# Altium integrated library power.IntLib: 59 symbols
Pins are listed as number, name and electrical type; pins without a type are passive.

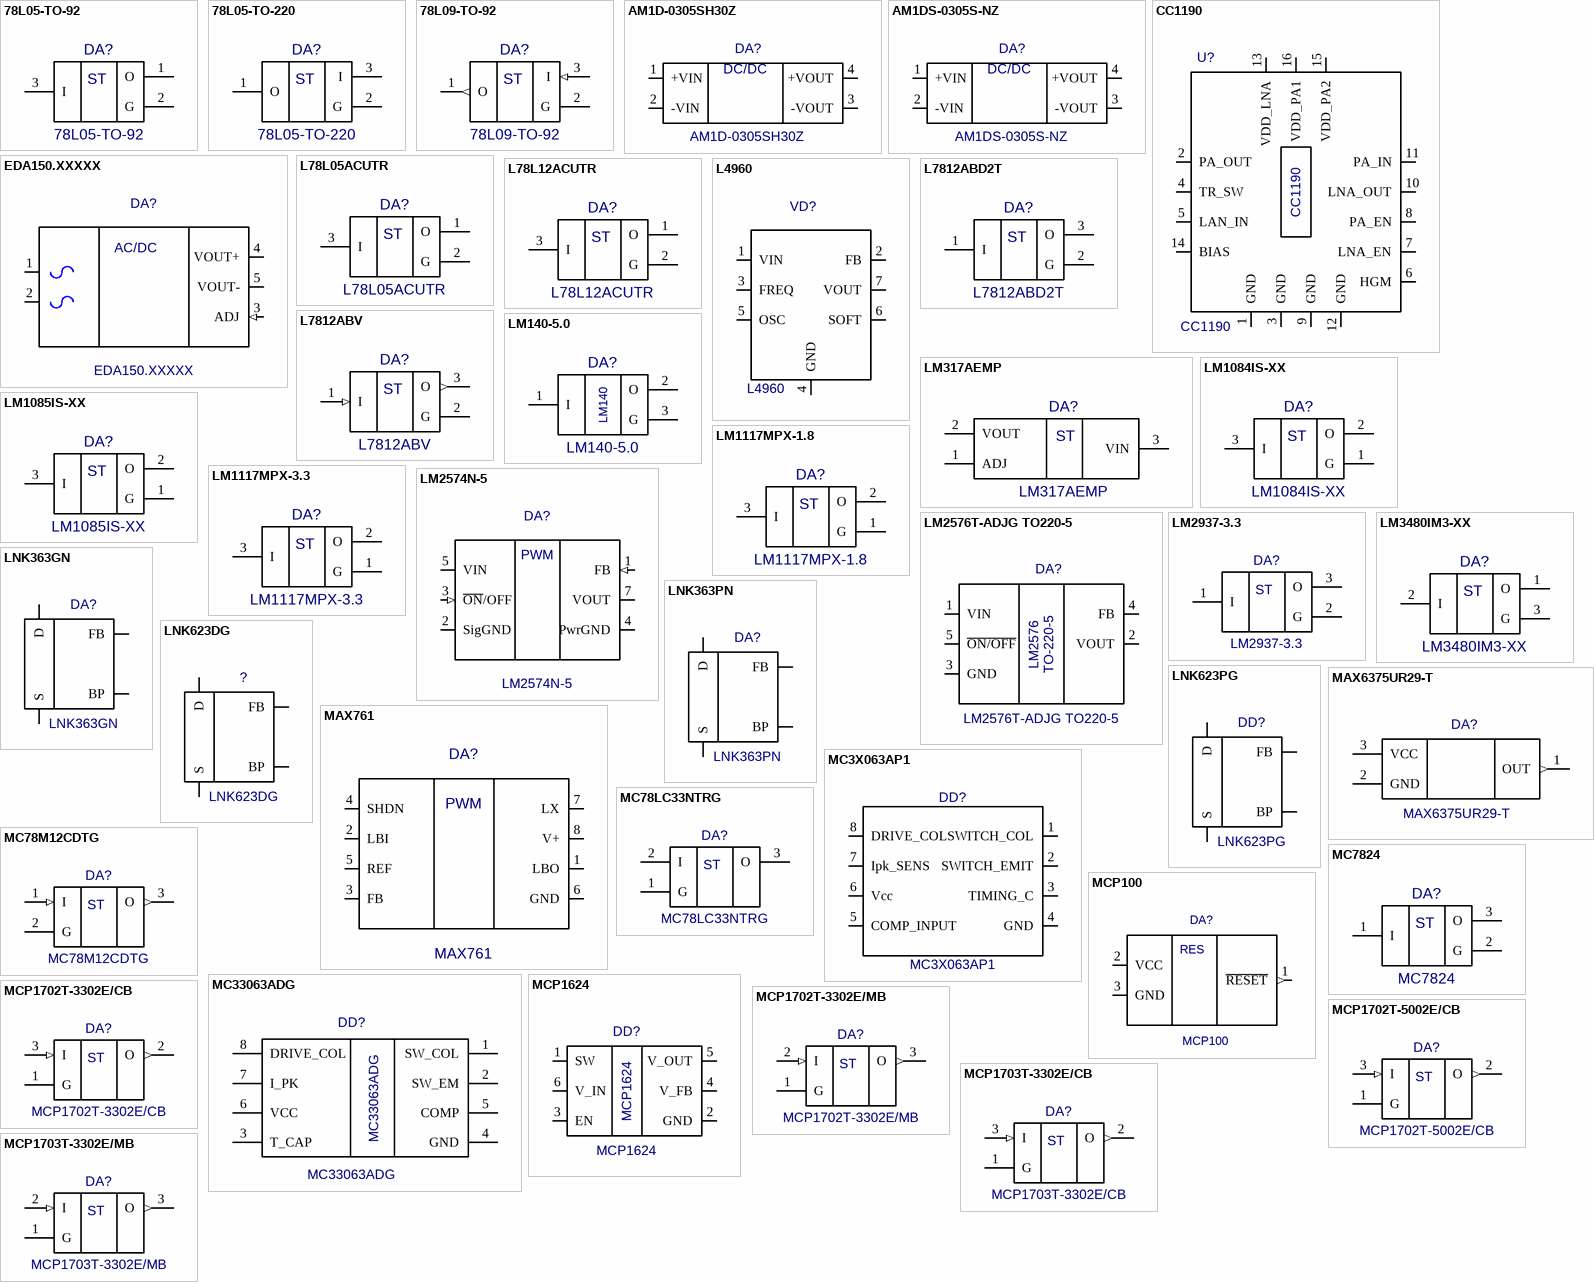
[diagram p0: symbols 78L05-TO-92 to MCP1703T-3302E/MB]

## 78L05-TO-92
designator DA?
Value: *
footprint TO-92
pins: 1 O (power), 2 G (power), 3 I (power)
text: ST

## 78L05-TO-220
designator DA?
Value: *
footprint TO-220_78L05-TO-220(Primary)
pins: 1 O, 2 G, 3 I
text: ST

## 78L09-TO-92
designator DA?
Value: *
footprint TO-92
pins: 1 O (out), 2 G, 3 I (in)
text: ST

## AM1D-0305SH30Z
designator DA?
Value: *
footprint AM1D-Z_3000V_SINGLE
pins: 1 +VIN, 2 -VIN, 3 -VOUT, 4 +VOUT
text: DC/DC

## AM1DS-0305S-NZ
designator DA?
Value: *
footprint AM1D-Z_1500V_SINGLE
pins: 1 +VIN, 2 -VIN, 3 -VOUT, 4 +VOUT
text: DC/DC

## CC1190
designator U?
Value: *
pins: 1 GND, 2 PA_OUT, 3 GND, 4 TR_SW, 5 LAN_IN, 6 HGM, 7 LNA_EN, 8 PA_EN, 9 GND, 10 LNA_OUT, 11 PA_IN, 12 GND, 13 VDD_LNA, 14 BIAS, 15 VDD_PA2, 16 VDD_PA1

## EDA150.XXXXX
designator DA?
Value: *
footprint EDA150.XXXXX
pins: 1 (power), 2 (power), 3 ADJ (in), 4 VOUT+ (power), 5 VOUT- (power), 6 hidden, 7 hidden, 8 hidden
text: AC/DC

## L78L05ACUTR
designator DA?
Value: *
footprint SOT-89
pins: 1 O (power), 2 G (power), 3 I (power), 4 hidden
text: ST

## L78L12ACUTR
designator DA?
Value: *
footprint SOT-89
pins: 1 O (power), 2 G (power), 3 I (power), 4 hidden
text: ST

## L4960
designator VD?
Value: *
footprint HEPTAWATT_VERT
pins: 1 VIN, 2 FB, 3 FREQ, 4 GND, 5 OSC, 6 SOFT, 7 VOUT

## L7812ABD2T
designator DA?
Value: *
footprint D2PAK
pins: 1 I (power), 2 G (power), 3 O (power)
text: ST

## L7812ABV
designator DA?
Value: *
footprint TO-220
pins: 1 I (in), 2 G, 3 O (out)
text: ST

## LM140-5.0
designator DA?
Value: *
footprint TO-39_LM140
pins: 1 I, 2 O, 3 G
text: LM140

## LM317AEMP
designator DA?
Value: *
footprint SOT-223(3)
pins: 1 ADJ, 2 VOUT, 3 VIN, 4 hidden
text: ST

## LM1084IS-XX
designator DA?
Value: *
footprint TO-263
pins: 1 G, 2 O, 3 I, 4 hidden
text: ST

## LM1085IS-XX
designator DA?
Value: *
footprint TO-263
pins: 1 G, 2 O, 3 I, 4 hidden
text: ST

## LM1117MPX-1.8
designator DA?
Value: *
footprint SOT-223(3)
pins: 1 G (power), 2 O (power), 3 I (power), 4 hidden
text: ST

## LM1117MPX-3.3
designator DA?
Value: *
footprint SOT-223(3)
pins: 1 G (power), 2 O (power), 3 I (power), 4 hidden
text: ST

## LM2574N-5
designator DA?
Value: *
footprint DIP-8
pins: 1 FB (in), 2 SigGND (power), 3 ~{ON}/OFF (in), 4 PwrGND (power), 5 VIN (power), 6 hidden, 7 VOUT (power), 8 hidden
text: PWM

## LM2576T-ADJG TO220-5
designator DA?
Value: *
footprint TO-220-5
pins: 1 VIN, 2 VOUT, 3 GND, 4 FB, 5 ~{ON/OFF}
text: LM2576; TO-220-5

## LM2937-3.3
designator DA?
Value: *
footprint SOT-223(3)
pins: 1 I, 2 G, 3 O, 4 hidden
text: ST

## LM3480IM3-XX
designator DA?
Value: *
footprint SOT-23
pins: 1 O, 2 I, 3 G
text: ST

## LNK363GN
designator DA?
Value: *
footprint SMD-8B-7
pins: 1 S, 2 hidden, 3 BP, 4 FB, 5 D, 6 hidden, 7 hidden

## LNK363PN
designator DA?
Value: *
footprint DIP-8B-7
pins: 1 S, 2 hidden, 3 BP, 4 FB, 5 D, 6 hidden, 7 hidden

## LNK623DG
designator ?
Value: *
footprint SO-8C_LNK623DG(Primary)
pins: 1 FB, 2 BP, 4 D, 5 S, 6 hidden, 7 hidden, 8 hidden

## LNK623PG
designator DD?
Value: *
footprint DIP-8C-7_LNK623PG(Primary)
pins: 1 FB, 2 BP, 4 D, 5 S, 6 hidden, 7 hidden, 8 hidden

## MAX761
designator DA?
Value: *
footprint SO-8
pins: 1 LBO, 2 LBI, 3 FB, 4 SHDN, 5 REF, 6 GND, 7 LX, 8 V+
text: PWM

## MAX6375UR29-T
designator DA?
Value: *
footprint SOT-23
pins: 1 OUT (out), 2 GND (power), 3 VCC (power)

## MC3X063AP1
designator DD?
Value: *
footprint DIP-8
pins: 1 SWITCH_COL, 2 SWITCH_EMIT, 3 TIMING_C, 4 GND, 5 COMP_INPUT, 6 Vcc, 7 Ipk_SENS, 8 DRIVE_COL

## MC78LC33NTRG
designator DA?
Value: *
footprint SOT23-5
pins: 1 G, 2 I, 3 O
text: ST

## MC78M12CDTG
designator DA?
Value: *
footprint DPACK
pins: 1 I (in), 2 G (power), 3 O (out)
text: ST

## MC7824
designator DA?
Value: *
footprint DPACK
pins: 1 I, 2 G, 3 O
text: ST

## MC33063ADG
designator DD?
Value: *
footprint SO-8
pins: 1 SW_COL, 2 SW_EM, 3 T_CAP, 4 GND, 5 COMP, 6 VCC, 7 I_PK, 8 DRIVE_COL

## MCP100
designator DA?
Value: *
footprint SOT-23
pins: 1 ~{RESET} (out), 2 VCC (power), 3 GND (power)
text: RES

## MCP1624
designator DD?
Value: *
footprint SOT-23-6
pins: 1 SW, 2 GND, 3 EN, 4 V_FB, 5 V_OUT, 6 V_IN

## MCP1702T-3302E/CB
designator DA?
Value: *
footprint SOT-23
pins: 1 G (power), 2 O (out), 3 I (in)
text: ST

## MCP1702T-3302E/MB
designator DA?
Value: *
footprint SOT-89
pins: 1 G (power), 2 I (in), 3 O (out), 4 hidden
text: ST

## MCP1702T-5002E/CB
designator DA?
Value: *
footprint SOT-23
pins: 1 G (power), 2 O (out), 3 I (in)
text: ST

## MCP1703T-3302E/CB
designator DA?
Value: *
footprint SOT-23
pins: 1 G (power), 2 O (out), 3 I (in)
text: ST

## MCP1703T-3302E/MB
designator DA?
Value: *
footprint SOT-89
pins: 1 G (power), 2 I (in), 3 O (out), 4 hidden
text: ST

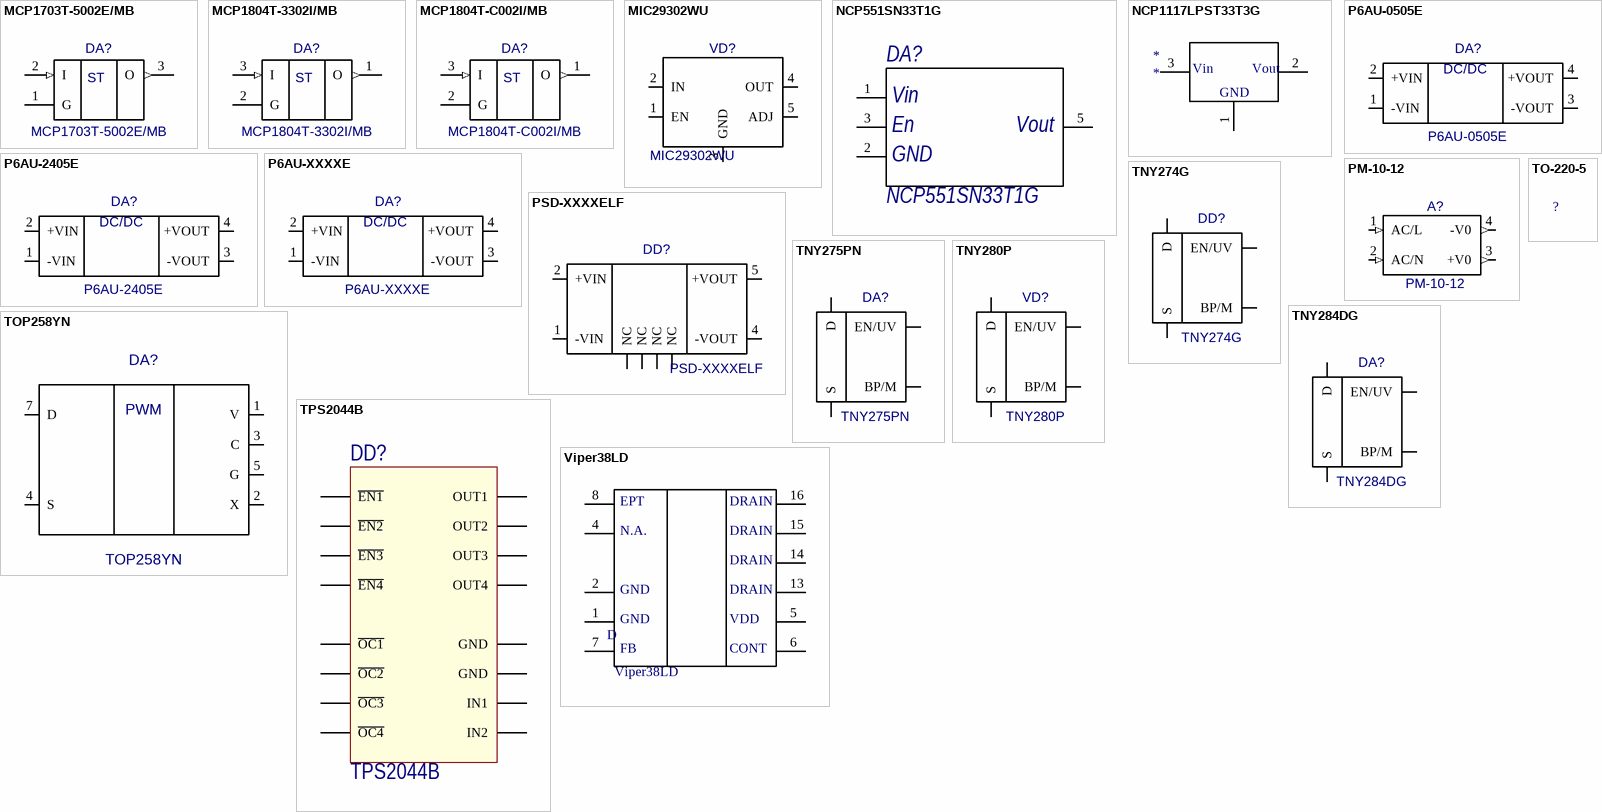
[diagram p1: symbols MCP1703T-5002E/MB to Viper38LD]

## MCP1703T-5002E/MB
designator DA?
Value: *
footprint SOT-89
pins: 1 G (power), 2 I (in), 3 O (out), 4 hidden
text: ST

## MCP1804T-3302I/MB
designator DA?
Value: *
footprint SOT-89
pins: 1 O (out), 2 G (power), 3 I (in), 4 hidden
text: ST

## MCP1804T-C002I/MB
designator DA?
Value: *
footprint SOT-89
pins: 1 O (out), 2 G (power), 3 I (in), 4 hidden
text: ST

## MIC29302WU
designator VD?
Value: *
footprint TO-263 (5 PIN)_MIC29302WU(Primary)
pins: 1 EN, 2 IN, 3 GND, 4 OUT, 5 ADJ, 6 hidden

## NCP551SN33T1G
designator DA?
footprint TSOP-5
pins: 1, 2, 3, 5
text: Vin; En; Vout; GND

## NCP1117LPST33T3G
designator *
footprint SOT-223(3)
pins: 1, 2, 3
text: Vin; Vout; GND

## P6AU-0505E
designator DA?
Value: *
footprint SIP-4
pins: 1 -VIN (power), 2 +VIN (power), 3 -VOUT (power), 4 +VOUT (power)
text: DC/DC

## P6AU-2405E
designator DA?
Value: *
footprint SIP-4
pins: 1 -VIN (power), 2 +VIN (power), 3 -VOUT (power), 4 +VOUT (power)
text: DC/DC

## P6AU-XXXXE
designator DA?
Value: *
footprint SIP-4
pins: 1 -VIN (power), 2 +VIN (power), 3 -VOUT (power), 4 +VOUT (power)
text: DC/DC

## PM-10-12
designator A?
Value: *
footprint PM-10
pins: 1 AC/L (in), 2 AC/N (in), 3 +V0 (out), 4 -V0 (out)

## PSD-XXXXELF
designator DD?
Value: *
footprint PSD_SMD
pins: 1 -VIN, 2 +VIN, 3 NC, 4 -VOUT, 5 +VOUT, 6 NC, 7 NC, 8 NC

## TNY274G
designator DD?
Value: *
footprint SMD-8C_TNY274G(Primary)
pins: 1 EN/UV, 2 BP/M, 4 D, 5 S, 6 hidden, 7 hidden, 8 hidden

## TNY275PN
designator DA?
Value: *
footprint DIP-8C-7_TNY275PN(Primary)
pins: 1 EN/UV, 2 BP/M, 4 D, 5 S, 6 hidden, 7 hidden, 8 hidden

## TNY280P
designator VD?
Value: *
footprint DIP-8C-7_TNY280P(Primary)
pins: 1 EN/UV, 2 BP/M, 4 D, 5 S, 6 hidden, 7 hidden, 8 hidden

## TNY284DG
designator DA?
Value: *
footprint SO-8C_TNY284DG(Primary)
pins: 1 EN/UV, 2 BP/M, 4 D, 5 S, 6 hidden, 7 hidden, 8 hidden

## TO-220-5
designator ?  (value not drawn)
Value: *
footprint TO-220-5
pins: 1 hidden, 2 hidden, 3 hidden, 4 hidden, 5 hidden

## TOP258YN
designator DA?
Value: *
footprint TO-220-7C_TOP258YN(Primary)
pins: 1 V, 2 X, 3 C, 4 S, 5 G, 7 D
text: PWM

## TPS2044B
designator DD?
footprint SO16
pins: 1 GND, 2 IN1, 3 ~{EN1}, 4 ~{EN2}, 5 GND, 6 IN2, 7 ~{EN3}, 8 ~{EN4}, 9 ~{OC4}, 10 OUT4, 11 OUT3, 12 ~{OC3}, 13 ~{OC2}, 14 OUT2, 15 OUT1, 16 ~{OC1}

## Viper38LD
designator D
footprint SO16
pins: 1, 2, 4, 5, 6, 7, 8, 13, 14, 15, 16
text: EPT; DRAIN; N.A.; GND; VDD; FB; CONT